# Altium footprint library fujitsu_relay_ftr-j2.PcbLib: 3 footprints
Each footprint in its own frame and in the unit in brackets; x right, y up, seen from the top. Pads: shape width x height; smd on the part's side, far side on the other; paste and mask are expansions set on the pad; w line width, h text height; cw(c..) or ccw(c..) is an arc to the next point about the centre after c.
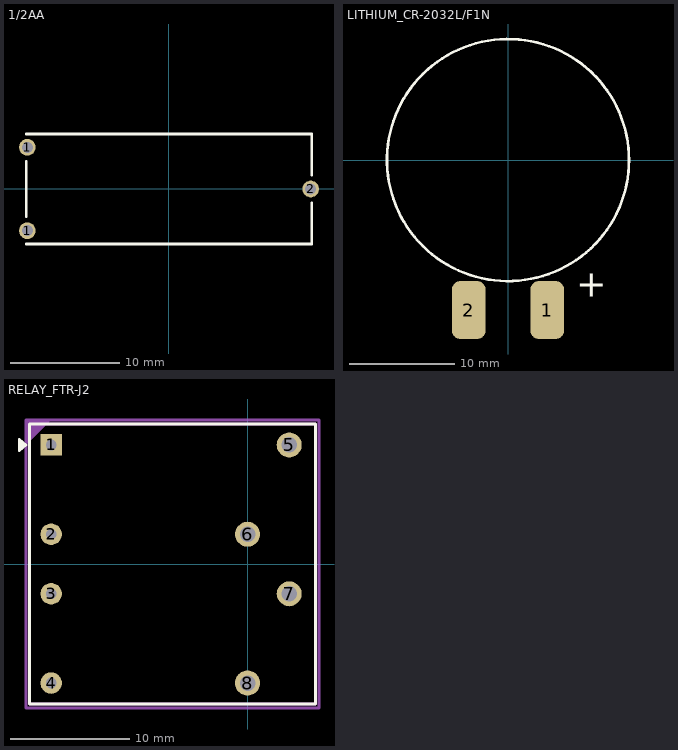
[diagram p0: the footprints below, top view; thin cyan lines are the x and y axes]

## 1/2AA [mm] "1/2AA TH BATTERY"
pads (3):
  round 1.524 hole 1: 1(-12.9,-3.8) 1(-12.9,3.8) 2(12.9,0)
Top Overlay:
  lines w0.254: -13,-5 13,-5 13,-1.25 ; -13,-2.5 -13,2.5 ; -13,5 13,5 13,1.25
3D body: height 8, standoff 0, extent -12.75,-4.75 12.75,4.75

## LITHIUM_CR-2032L/F1N [mm] "BATTERY LITHIUM COIN 3V W/TABS"
pads (2):
  rrect50% 3.2x5.5 smd: 1(3.725,-14.25) 2(-3.725,-14.25)
Top Overlay:
  circle w0.254: c0,0 r11.5
  text "+" at 6.5,-13 h2.54
3D body: height 4, standoff 0, extent -10.048,-9.98 9.873,9.98

## RELAY_FTR-J2 [mm]
pads (8):
  rect 1.8x1.8 hole 0.9: 1(-16.5,10)
  round 1.8 hole 0.9: 2(-16.5,2.5) 3(-16.5,-2.5) 4(-16.5,-10)
  round 2.1 hole 1.3: 5(3.5,10) 6(0,2.5) 7(3.5,-2.5) 8(0,-10)
Top Overlay:
  region: -19.2,10.5 -18.6,10 -19.2,9.5
  lines w0.2: -19.2,9.5 -18.6,10 -19.2,10.5 -19.2,9.5
  lines w0.254: -18.3,-11.75 -18.3,11.75 5.7,11.75 5.7,-11.75 -18.3,-11.75
Top 3D Body:
  lines w0.254: -18.3,-11.75 -18.3,11.75 5.7,11.75 5.7,-11.75 -18.3,-11.75
Top Courtyard:
  region: -18.6,12.1 -16.5,12.1 -18.6,10
  lines w0.254: -18.6,-12.1 6,-12.1 6,12.1 -18.6,12.1 -18.6,-12.1
Top Designator (Mech17):
  text ".Designator" at -0.358,2.097 h1.02
3D body "ftr-j2.STEP": height 27, standoff -3.3, extent -18.3,-11.75 5.7,11.75